# Altium schematic symbol library Regulators.SchLib: 30 symbols
Pins are listed as number, name and electrical type; pins without a type are passive.

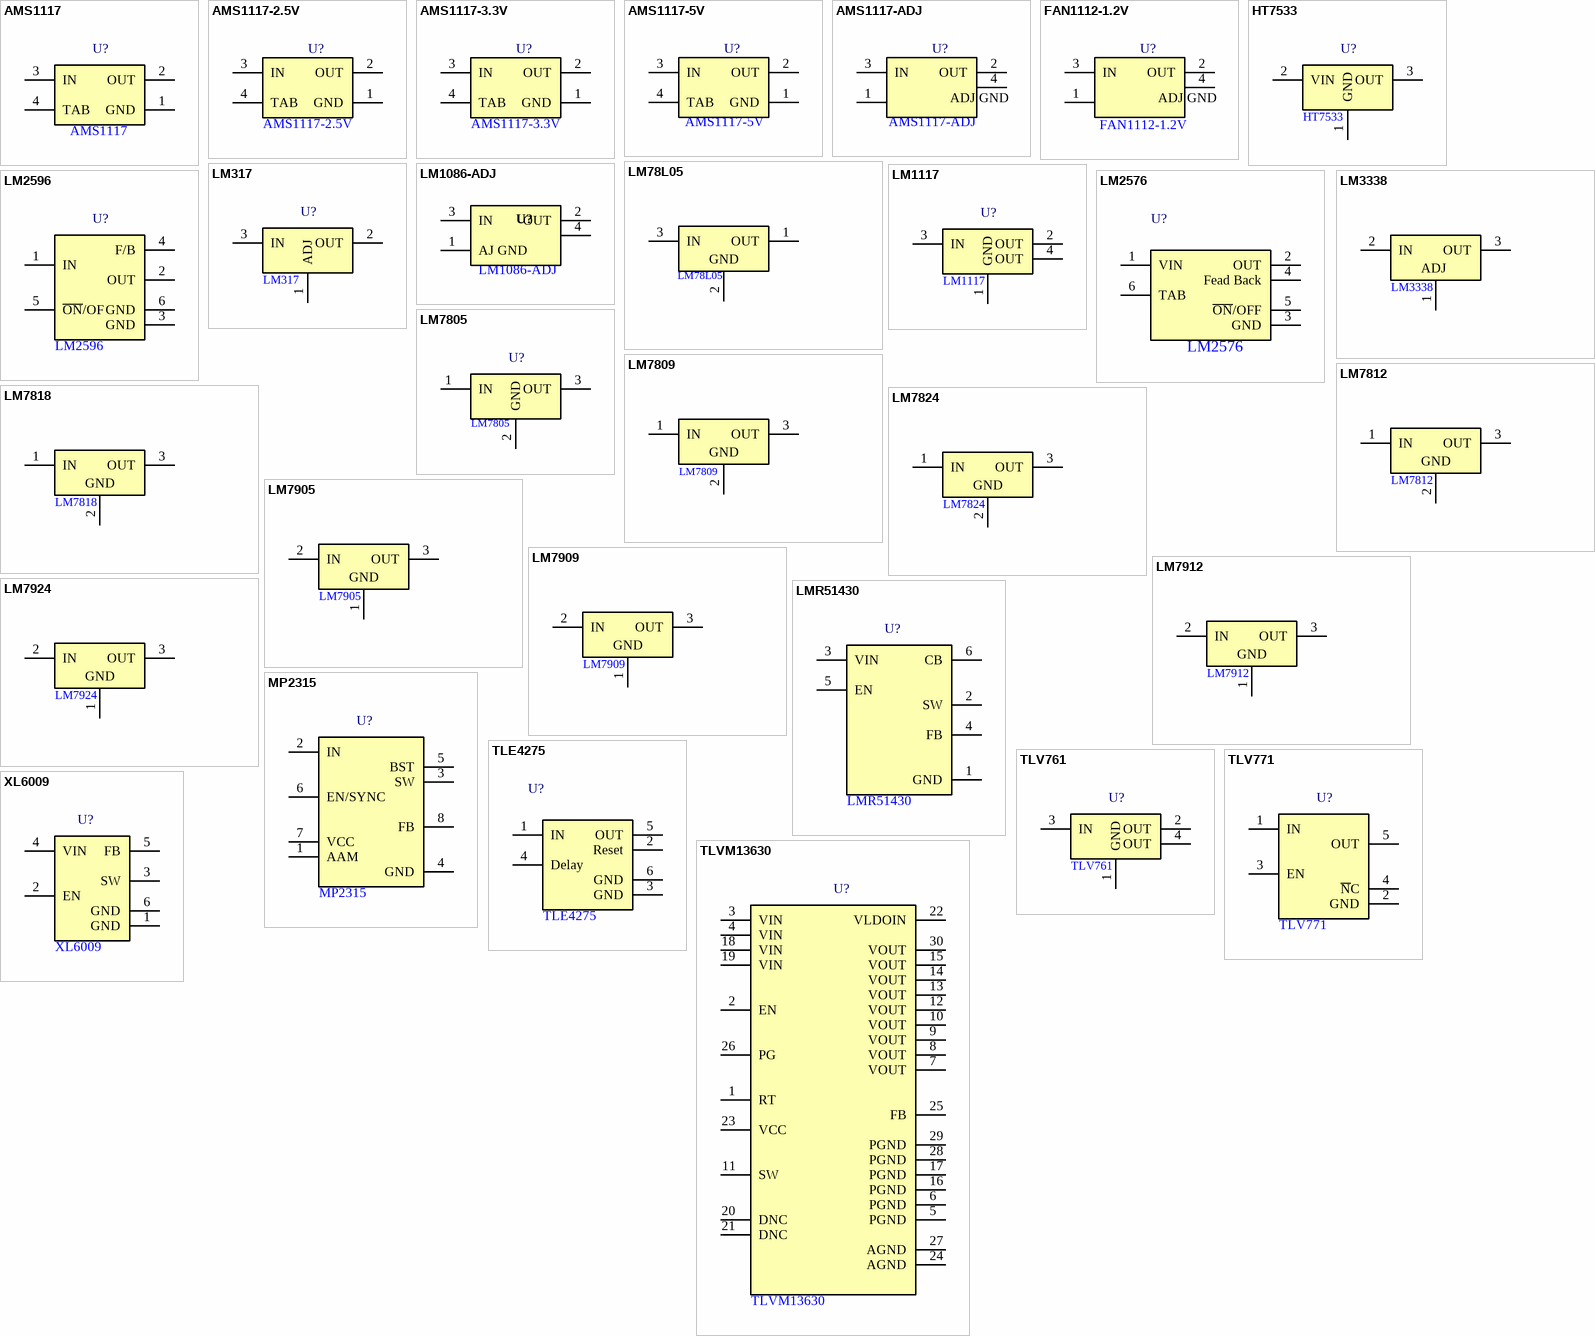
[diagram p0: symbols AMS1117 to XL6009]

## AMS1117
designator U?  value AMS1117
The AMS1117 series of adjustable and fixed voltage regulators are designed to provide up to1A output current and to operate / down to 1V input-to-output differential. The dropout voltage of the device is guaranteed maximum 1.3V, decreasing at lower / load currents. / On-chip trimming adjusts the reference voltage to 1.5%. Current limit is set to minimize the stress under overload conditions / on both the regulator and power source circuitry. / The AMS1117 devices are pin compatible with other three-terminal SCSI regulators and are offered in the low profile surface / mount SOT-223 package, in the 8L SOIC package and in the TO-252 (DPAK) plastic package.
footprint SOT-223-3
pins: 1 GND, 2 OUT, 3 IN, 4 TAB

## AMS1117-2.5V
designator U?  value AMS1117-2.5V
The AMS1117 is a positive low voltage dropout regulator; / typical voltage dropout is only 1.2V at 1A. / AMS1117 provides two versions: fixed and adjustable / versions. VOUT has a tolerance of less than 1.5% for fixed / versions 1.2V 1.5V, 1.8V, 2.5V, 3.3V, 5.0V and adjustable / version or 2% output accuracy for fixed version 1.2V. / The AMS1117 offers some key features include thermal / shutdown and current limiting. It is suitable for all electronic / products; ComponentLinkp-URL: https://www.smartw.ir/; DatasheetVersion: 2022
footprint SOT-223-3
pins: 1 GND (power), 2 OUT (power), 3 IN (power), 4 TAB (power)

## AMS1117-3.3V
designator U?  value AMS1117-3.3V
The AMS1117 is a positive low voltage dropout regulator; / typical voltage dropout is only 1.2V at 1A. / AMS1117 provides two versions: fixed and adjustable / versions. VOUT has a tolerance of less than 1.5% for fixed / versions 1.2V 1.5V, 1.8V, 2.5V, 3.3V, 5.0V and adjustable / version or 2% output accuracy for fixed version 1.2V. / The AMS1117 offers some key features include thermal / shutdown and current limiting. It is suitable for all electronic / products; ComponentLinkp-URL: https://www.smartw.ir/; DatasheetVersion: 2022
footprint SOT-223-3
pins: 1 GND (power), 2 OUT (power), 3 IN (power), 4 TAB (power)

## AMS1117-5V
designator U?  value AMS1117-5V
The AMS1117 is a positive low voltage dropout regulator; / typical voltage dropout is only 1.2V at 1A. / AMS1117 provides two versions: fixed and adjustable / versions. VOUT has a tolerance of less than 1.5% for fixed / versions 1.2V 1.5V, 1.8V, 2.5V, 3.3V, 5.0V and adjustable / version or 2% output accuracy for fixed version 1.2V. / The AMS1117 offers some key features include thermal / shutdown and current limiting. It is suitable for all electronic / products; ComponentLinkp-URL: https://www.smartw.ir/; DatasheetVersion: 2022
footprint SOT-223-3
pins: 1 GND (power), 2 OUT (power), 3 IN (power), 4 TAB (power)

## AMS1117-ADJ
designator U?  value AMS1117-ADJ
The AMS1117 is a positive low voltage dropout regulator; / typical voltage dropout is only 1.2V at 1A. / AMS1117 provides two versions: fixed and adjustable / versions. VOUT has a tolerance of less than 1.5% for fixed / versions 1.2V 1.5V, 1.8V, 2.5V, 3.3V, 5.0V and adjustable / version or 2% output accuracy for fixed version 1.2V. / The AMS1117 offers some key features include thermal / shutdown and current limiting. It is suitable for all electronic / products; ComponentLinkp-URL: https://www.smartw.ir/; DatasheetVersion: 2022
footprint SOT-223-3
pins: 1 ADJ, 2 OUT (power), 3 IN (power), 4
text: ADJ GND

## FAN1112-1.2V
designator U?  value FAN1112-1.2V
ComponentLinkp-URL: https://www.smartw.ir/; DatasheetVersion: 2022
footprint SOT-223-3
pins: 1 ADJ, 2 OUT (power), 3 IN (power), 4
text: ADJ GND

## HT7533
designator U?  value HT7533
High Driver Regulator / HT75XX / ■ Features / ● Low power consumption / ● Low voltage drop / ● Low temperature coefficient / ● High input voltage (up to 24V) / ● High output current : 100mA
footprint SOT-89-3_L4.5 (JLCPCB  L=Length)
pins: 1 GND, 2 VIN, 3 OUT

## LM78L05
designator U?  value LM78L05
The LM78L series (LM78Lxx throughout this / document) of three terminal positive regulators is / available with several fixed output voltages, making / them useful in a wide range of applications. Used as / a Zener-diode and resistor combination replacement, / the LM78Lxx usually provides an effective output / impedance improvement of two orders of magnitude / and lower quiescent current. These regulators can / provide local, on-card regulation, eliminating / distribution problems associated with single-point / regulation. The available voltages allow the LM78Lxx / to be used in logic systems, instrumentation, HiFi, / and other solid-state electronic equipment. / The LM78Lxx is available in the plastic TO-92 (LP) / package, the SOIC (D) package, and a chip-sized / package (8-Bump DSBGA) using TI's DSBGA / package technology. With adequate heat sinking, the / regulator can deliver 100-mA output current. Current / limiting is included to limit the peak output current to / a safe value. Safe area protection for the output / transistors is provided to limit internal power / dissipation. If internal power dissipation is too high for / the heat sinking provided, the thermal shutdown / circuit prevents the IC from overheating.; DatasheetVersion: 2022
pins: 1 OUT (power), 2 GND (power), 3 IN (power)

## LM317
designator U?
The LM217, LM317 are monolithic integrated circuits in TO-220, TO-220FP, D²PAK / and SOT223 packages intended for use as positive adjustable voltage regulators. / They are designed to supply more than 1.5 A of load current with an output voltage / adjustable over a 1.2 to 37 V range. / The nominal output voltage is selected by means of a resistive divider, making / the device exceptionally easy to use and eliminating the stocking of many fixed / regulators.; Value: LM317
footprint TO-252-2 (JLCPCB)
pins: 1 ADJ, 2 OUT, 3 IN

## LM1086-ADJ
designator U?  value LM1086-ADJ
The LM1086 is a regulator with a maximum dropout / of 1.5 V at 1.5 A of load current. The device has the / same pin-out as TI's industry standard LM317. / Two resistors are required to set the output voltage of / the adjustable output voltage version of the LM1086. / Fixed output voltage versions integrate the adjust / resistors. Typically, no input capacitor is needed / unless the device is situated more than 6 inches from / the input filter capacitors. Output capacitor can be / replaced with ceramic and appropriate ESR. / The LM1086 circuit includes a zener trimmed / bandgap reference, current limiting, and thermal / shutdown. Because the LM1086 regulator is floating / and detects only the input-to-output differential / voltage, supplies of several hundred volts can be / regulated as long as the maximum input-to-output / differential is not exceeded. Exceeding the maximum / input-to-output deferential will result in short-circuiting / the output. By connecting a fixed resistor between the / adjustment pin and output, the LM1086 can be also / used as a precision current regulator.
pins: 1 AJ GND, 2 OUT (power), 3 IN (power), 4

## LM1117
designator U?
The LM1117 is a low dropout voltage regulator with a / dropout of 1.2 V at 800 mA of load current. / The LM1117 is available in an adjustable version, / which can set the output voltage from 1.25 V to 13.8 V / with only two external resistors. In addition, the device / is available in five fixed voltages, 1.8 V, 2.5 V, 3.3 V, / and 5 V. / The LM1117 offers current limiting and thermal / shutdown. The circuit includes a Zener trimmed bandgap reference to assure output voltage accuracy to / within ±1%. / A minimum of 10-µF tantalum capacitor is required / at the output to improve the transient response and / stability.; Value: LM1117
pins: 1 GND, 2 OUT, 3 IN, 4 OUT

## LM2576
designator U?  value LM2576
The LM2576 series of regulators are monolithic / integrated circuits that provide all the active functions / for a step-down (buck) switching regulator, capable / of driving 3-A load with excellent line and load / regulation. These devices are available in fixed output / voltages of 3.3 V, 5 V, 12 V, 15 V, and an adjustable / output version.; ComponentLinkp-URL: https://www.smartw.ir/
pins: 1 VIN (power), 2 OUT (power), 3 GND (power), 4 Fead Back (power), 5 ~{ON}/OFF (power), 6 TAB (power)

## LM2596
designator U?
The LM2596 series of regulators are monolithic / integrated circuits that provide all the active functions / for a step-down (buck) switching regulator, capable / of driving a 3-A load with excellent line and load / regulation. These devices are available in fixed output / voltages of 3.3 V, 5 V, 12 V, and an adjustable output / version. / Requiring a minimum number of external / components, these regulators are simple to use and / include internal frequency compensation, and a fixedfrequency oscillator. / The LM2596 series operates at a switching frequency / of 150 kHz, thus allowing smaller sized filter / components than what can be required with / lower frequency switching regulators. Available in a / standard 5-pin TO-220 package with several different / lead bend options, and a 5-pin TO-263 surface mount / package.; Value: LM2596
pins: 1 IN, 2 OUT, 3 GND, 4 F/B, 5 ~{ON}/OF, 6 GND

## LM3338
designator U?  value LM3338
The LM138 series of adjustable 3-terminal positive / voltage regulators is capable of supplying in excess / of 5 A over a 1.2-V to 32-V output range. They are / exceptionally easy to use and require only 2 resistors / to set the output voltage. Careful circuit design has / resulted in outstanding load and line regulation, / comparable to many commercial power supplies. The / LM138 family is supplied in a standard 3-lead / transistor package.; DatasheetVersion: 2022
pins: 1 ADJ (power), 2 IN (power), 3 OUT (power)

## LM7805
designator U?
tion / This series of fixed-voltage integrated-circuit voltage regulators is designed for a wide range of applications. / These applications include on-card regulation for elimination of noise and distribution problems associated with / single-point regulation. Each of these regulators can deliver up to 1.5 A of output current. The internal / current-limiting and thermal-shutdown features of these regulators essentially make them immune to overload. / In addition to use as fixed-voltage regulators, these devices can be used with external components to obtain / adjustable output voltages and currents, and also can be used as the power-pass element in precision / regula; Value: LM7805
pins: 1  IN, 2 GND, 3 OUT

## LM7809
designator U?  value LM7809
The Bay Linear LM78XX is integrated linear positive / regulator with three terminals. The LM78XX offer several / fixed output voltages making them useful in wide range of / applications. When used as a zener diode/resistor combination / replacement, the LM78XX usually results in an effective / output impedance improvement of two orders of magnitude, / lower quiescent current.
pins: 1 IN (power), 2 GND (power), 3 OUT (power)

## LM7812
designator U?  value LM7812
The Bay Linear LM78XX is integrated linear positive / regulator with three terminals. The LM78XX offer several / fixed output voltages making them useful in wide range of / applications. When used as a zener diode/resistor combination / replacement, the LM78XX usually results in an effective / output impedance improvement of two orders of magnitude, / lower quiescent current.
pins: 1 IN (power), 2 GND (power), 3 OUT (power)

## LM7818
designator U?  value LM7818
The Bay Linear LM78XX is integrated linear positive / regulator with three terminals. The LM78XX offer several / fixed output voltages making them useful in wide range of / applications. When used as a zener diode/resistor combination / replacement, the LM78XX usually results in an effective / output impedance improvement of two orders of magnitude, / lower quiescent current.; DatasheetVersion: 2022
pins: 1 IN (power), 2 GND (power), 3 OUT (power)

## LM7824
designator U?  value LM7824
FEATURES / ·Output current in excess of 1.5A / ·Output voltage of 24V / ·Internal thermal overload protection / ·Short circuit protection / ·Output transition Safe-Area compensation; DatasheetVersion: 2022
pins: 1 IN (power), 2 GND (power), 3 OUT (power)

## LM7905
designator U?  value LM7905
The LM79XX series of 3-terminal regulators is Front View available with fixed output voltages of −5V, −12V, and See Package Number NDE0003B −15V. These devices need only one external / component—a compensation capacitor at the output. / The LM79XX series is packaged in the TO-220 power Typical Applications package and is capable of supplying 1.5A of output / current. / These regulators employ internal current limiting safe / area protection and thermal shutdown for protection / against virtually all overload conditions. / Low ground pin current of the LM79XX series allows / output voltage to be easily boosted above the preset / value with a resistor divider. The low quiescent *Required if regulator is separated from current drain of these devices with a specified filter capacitor by more than 3″. For value / maximum change with line and load ensures good given, capacitor must be solid tantalum. / regulation in the voltage boosted mode. 25μF aluminum electrolytic may be / substituted. For applications requiring other voltages, see LM137 / †Required for stability. For value given, datashee; DatasheetVersion: 2022
pins: 1 GND (power), 2 IN (power), 3 OUT (power)

## LM7909
designator U?  value LM7909
The LM79XX series of 3-terminal regulators is Front View available with fixed output voltages of −5V, −12V, and See Package Number NDE0003B −15V. These devices need only one external / component—a compensation capacitor at the output. / The LM79XX series is packaged in the TO-220 power Typical Applications package and is capable of supplying 1.5A of output / current. / These regulators employ internal current limiting safe / area protection and thermal shutdown for protection / against virtually all overload conditions. / Low ground pin current of the LM79XX series allows / output voltage to be easily boosted above the preset / value with a resistor divider. The low quiescent *Required if regulator is separated from current drain of these devices with a specified filter capacitor by more than 3″. For value / maximum change with line and load ensures good given, capacitor must be solid tantalum. / regulation in the voltage boosted mode. 25μF aluminum electrolytic may be / substituted. For applications requiring other voltages, see LM137 / †Required for stability. For value given, datashee; DatasheetVersion: 2022
pins: 1 GND (power), 2 IN (power), 3 OUT (power)

## LM7912
designator U?  value LM7912
The LM79XX series of 3-terminal regulators is Front View available with fixed output voltages of −5V, −12V, and See Package Number NDE0003B −15V. These devices need only one external / component—a compensation capacitor at the output. / The LM79XX series is packaged in the TO-220 power Typical Applications package and is capable of supplying 1.5A of output / current. / These regulators employ internal current limiting safe / area protection and thermal shutdown for protection / against virtually all overload conditions. / Low ground pin current of the LM79XX series allows / output voltage to be easily boosted above the preset / value with a resistor divider. The low quiescent *Required if regulator is separated from current drain of these devices with a specified filter capacitor by more than 3″. For value / maximum change with line and load ensures good given, capacitor must be solid tantalum. / regulation in the voltage boosted mode. 25μF aluminum electrolytic may be / substituted. For applications requiring other voltages, see LM137 / †Required for stability. For value given, datashee
pins: 1 GND (power), 2 IN (power), 3 OUT (power)

## LM7924
designator U?  value LM7924
The Contek LM79XX series of three-terminal negative / regulators are available in TO-220 package and with several / fixed output voltage, making them useful in a wide range of / application. Each type employs internal current limiting, / thermal shut-down and safe area protection, making it / essentially indestructible.; DatasheetVersion: 2022
pins: 1 GND (power), 2 IN (power), 3 OUT (power)

## LMR51430
designator U?  value LMR51430
The LMR51430 is a wide-VIN, easy-to-use SIMPLE / SWITCHER® power converter synchronous buck / converter capable of driving up to 3-A load current. / With a wide input range of 4.5 V to 36 V, the device is / suitable for a wide range of industrial applications for / power conditioning from an unregulated source. / The LMR51430 operates at 500-kHz and 1.1-MHz / switching frequency to support use of relatively small / inductors for an optimized solution size. The device / has a PFM version to realize high efficiency at / light load and FPWM version to achieve constant / frequency, and small output voltage ripple over the full / load range. Soft-start and compensation circuits are / implemented internally, which allows the device to be / used with minimum external components. / The device has built-in protection features, such as / cycle-by-cycle current limit, hiccup mode short-circuit / protection, and thermal shutdown in case of excessive / power dissipation. The LMR51430 is available in a / 6-pin SOT-23 package
footprint SOT-23-6
pins: 1 GND, 2 SW, 3 VIN, 4 FB, 5 EN, 6 CB

## MP2315
designator U?  value MP2315
The MP2315 is a high frequency synchronous / rectified step-down switch mode converter with / built in internal power MOSFETs. It offers a / very compact solution to achieve 3A continuous / output current over a wide input supply range / with excellent load and line regulation. The / MP2315 has synchronous mode operation for / higher efficiency over output current load range. / Current mode operation provides fast transient / response and eases loop stabilization. / Full protection features include OCP and / thermal shut down. / The MP2315 requires a minimum number of / readily available standard external components / and is available in a space saving 8-pin / TSOT23 packag
pins: 1 AAM, 2 IN, 3 SW, 4 GND, 5 BST, 6 EN/SYNC, 7 VCC, 8 FB

## TLE4275
designator U?  value TLE4275
The TLE4275-Q1 is a monolithic integrated low- PART NUMBER PACKAGE BODY SIZE (NOM) / dropout voltage regulator offered in a 5-pin TO DDPAK/TO-263 (5) 10.16 mm × 8.42 mm package. The device regulates an input voltage up to / TLE4275-Q1 TO-252 (5) 6.10 mm × 6.60 mm 45 V to VOUT = 5 V (typical). The device can drive / loads up to 450 mA and is short-circuit proof. At HTSSOP (20) 6.50 mm × 4.40 mm / overtemperature, the incorporated temperature (1) For all available packages, see the orderable addendum at / protection turns off the TLE4275-Q1. The device the end of the data sheet. / generates a reset signal for an output voltage, VOUT,rt, / of 4.65 V (typical). By the use of an external delay / capacitor, one can program the reset delay time.; ComponentLinkp-URL: https://www.smartw.ir/; DatasheetVersion: 2022
footprint TO-263-5
pins: 1 IN (power), 2 Reset (power), 3 GND (power), 4 Delay (power), 5 OUT (power), 6 GND (power)

## TLV761
designator U?  value TLV761
The TLV761 is a linear voltage regulator that improves / the functionality of a traditional x1117 regulator / (TLV1117 or LM1117) with tighter output accuracy and / low quiescent current (IQ) to lower the standby power / consumption. The TLV761 is pin-to-pin compatible / with other fixed SOT-223, TO-252 regulators. / The TLV761 input voltage range is from 2.5V to 16V / and provides an output voltage range from 0.8V to / 13V to support a wide variety of applications. / The wide bandwidth PSRR performance of the / TLV761 is typically greater than 60dB at 1kHz and / 40dB at 1MHz, which helps attenuate the switching / frequency of an upstream DC/DC converter and / minimizes post regulator filtering. / Additionally, the TLV761 has an internal soft start / feature to reduce inrush current during start-up, / which can help save space and cost in a design by / minimizing input capacitance. The TLV761 features a / foldback current limit that limits the power dissipation / of the device during high-load current faults or / shorting events.
footprint SOT-223-3
pins: 1 GND, 2 OUT, 3 IN, 4 OUT

## TLV771
designator U?  value TLV771
The TLV771 is a small, low-dropout (LDO) linear / regulator that sources 150mA of output current. This / LDO provides a voltage source with high PSRR and / load and line transient performance that meets the / requirements for a variety of circuits. The TLV771 has / a 1.4V to 5.5V input voltage range and a 0.6V to 3.3V / output voltage range. This flexibility makes the device / useful for multiple applications. / The TLV771 features an internal soft-start circuit to / avoid excessive inrush current, thus minimizing the / input voltage drop during start-up. An active pulldown / circuit quickly discharges the output when the LDO / is disabled and provides a known start-up state. The / EN input allows an external logic signal to enable or / disable the regulated output. The LDO is stable with / small ceramic capacitors, allowing for a small overall / package size. The operating junction temperature / range is from −40°C to +125°C. This LDO is available / in standard SOT-23 (DBV) and 1mm × 1mm X2SON / (DQN) packages.
footprint SOT-23-5
pins: 1 IN, 2 GND, 3 EN, 4 ~{N}C, 5 OUT

## TLVM13630
designator U?  value TLVM13630
The TLVM13630 synchronous buck power module / is a highly integrated 36-V, 3-A DC/DC solution that / combines power MOSFETs, a shielded inductor, and / passives in an Enhanced HotRod™ QFN package. / The module has pins for VIN and VOUT located at the / corners of the package for optimized input and output / capacitor layout placement. Four larger thermal pads / beneath the module enable a simple layout and easy / handling in manufacturing. / With an output voltage range from 1 V to 6 V, / the TLVM13630 is designed to quickly and easily / implement a low-EMI design in a small PCB footprint. / The total solution requires as few as four external / components and eliminates the magnetics and / compensation part selection from the design process. / Although designed for small size and simplicity / in space-constrained applications, the TLVM13630 / module offers many features for robust performance: / precision enable with hysteresis for adjustable inputvoltage UVLO, integrated VCC, bootstrap and input / capacitors for increased reliability and higher density, / constant switching frequency over the full load current / range for enhanced load transient performance, / negative output voltage capability for inverting / applications, and a PGOOD indicator for sequencing, / fault protection, and output voltage monitoring
pins: 1 RT, 2 EN, 3 VIN, 4 VIN, 5 PGND, 6 PGND, 7 VOUT, 8 VOUT, 9 VOUT, 10 VOUT, 11 SW, 12 VOUT, 13 VOUT, 14 VOUT, 15 VOUT, 16 PGND, 17 PGND, 18 VIN, 19 VIN, 20 DNC, 21 DNC, 22 VLDOIN, 23 VCC, 24 AGND, 25 FB, 26 PG, 27 AGND, 28 PGND, 29 PGND, 30 VOUT

## XL6009
designator U?  value XL6009
The XL6009 regulator is a wide input range, / current mode, DC/DC converter which is / capable of generating either positive or / negative output voltages. It can be configured / as either a boost, flyback, SEPIC or inverting / converter. The XL6009 built in N-channel / power MOSFET and fixed frequency / oscillator, current-mode architecture results in / stable operation over a wide range of supply / and output voltages. / The XL6009 regulator is special design for / portable electronic equipment applications.
footprint TO-263-5
pins: 1 GND, 2 EN, 3 SW, 4 VIN, 5 FB, 6 GND